# Altium schematic symbol library BMP180.SchLib: 1 symbol
Pins are listed as number, name and electrical type; pins without a type are passive.

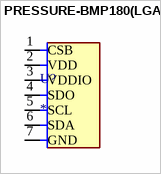
[diagram p0: symbol PRESSURE-BMP180(LGA7)]

## PRESSURE-BMP180(LGA7)
designator U?
Pressure Sensor 4.35PSI ~ 15.95PSI (30kPa ~ 110kPa) Absolute - 16 ~ 19 b 7-VLGA; MF: Bosch; MP: BMP180; SnapEDA_Link: https://www.snapeda.com/parts/BMP180/Bosch/view-part/?ref=snap; Package: LGA-7 Bosch; Value: *; Check_prices: https://www.snapeda.com/parts/BMP180/Bosch/view-part/?ref=eda
footprint LGA7-1.5-3.8X3.6MM
pins: 1 CSB (io), 2 VDD (io), 3 VDDIO (io), 4 SDO (io), 5 SCL (io), 6 SDA (io), 7 GND (io)